# Altium schematic symbol library Connectors B2B.SchLib: 8 symbols
Pins are listed as number, name and electrical type; pins without a type are passive.

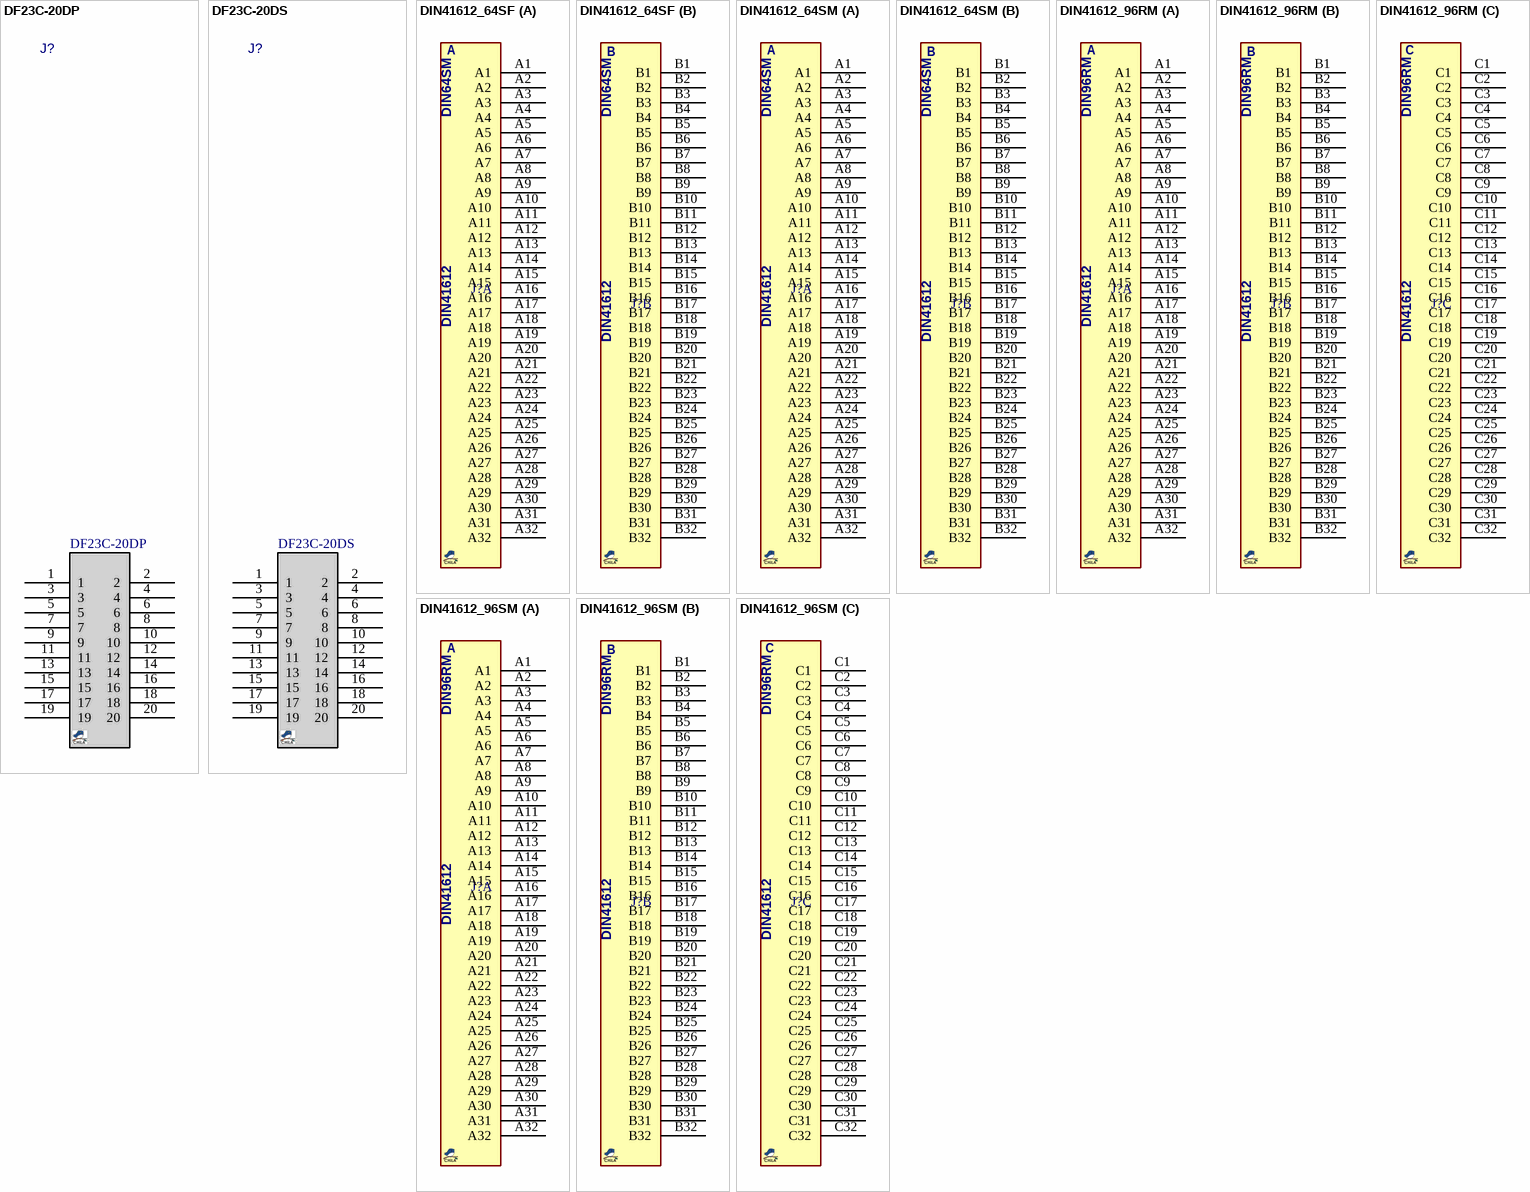
[diagram p0: symbols DF23C-20DP to DIN41612_96SM]

## DF23C-20DP
designator J?
DF23 Series B2B Connectors; MANF: HIROSE; DESC: Mating DF23C-20DS-0.5V(51); MANF_P#: DF23C-20DP-0.5V(92); PRICE: 0.85$; VALUE: DF23C-20DP
footprint DF23C_20DP (Footprint not found)
pins: 1, 2, 3, 4, 5, 6, 7, 8, 9, 10, 11, 12, 13, 14, 15, 16, 17, 18, 19, 20

## DF23C-20DS
designator J?
DF23 Series B2B Connectors; MANF: HIROSE; DESC: Mating DF23C-20DP-0.5V(92); MANF_P#: DF23C-20DS-0.5V(51); PRICE: 0.7$; VALUE: DF23C-20DS
footprint DF23C_20DS (Hirose Connector DF23C-20DS-0.5V(51) 20WAY pitch:0.5mm)
pins: 1, 2, 3, 4, 5, 6, 7, 8, 9, 10, 11, 12, 13, 14, 15, 16, 17, 18, 19, 20

## DIN41612_64SF
designator J?, comment DIN64SF  (value not drawn)
DIN 41612, 2.54mm,pin,DIN 41612,solder,PCB; MANF: HIROSE; MANF_P#: PCN10-64S-2.54DSA(72); VALUE: DIN64SF
footprint DIN_64SF
part A pins: A1, A2, A3, A4, A5, A6, A7, A8, A9, A10, A11, A12, A13, A14, A15, A16, A17, A18, A19, A20, A21, A22, A23, A24, A25, A26, A27, A28, A29, A30, A31, A32
part B pins: B1, B2, B3, B4, B5, B6, B7, B8, B9, B10, B11, B12, B13, B14, B15, B16, B17, B18, B19, B20, B21, B22, B23, B24, B25, B26, B27, B28, B29, B30, B31, B32
part A text: A; DIN64SM; DIN41612
part B text: B; DIN64SM; DIN41612

## DIN41612_64SM
designator J?, comment DIN64SM  (value not drawn)
DIN 41612, 2.54mm,pin,DIN 41612,solder,PCB; MANF: HIROSE; MANF_P#: PCN10-64P-2.54DSA(72); VALUE: DIN64SM
footprint DIN_64SM (Footprint not found)
part A pins: A1, A2, A3, A4, A5, A6, A7, A8, A9, A10, A11, A12, A13, A14, A15, A16, A17, A18, A19, A20, A21, A22, A23, A24, A25, A26, A27, A28, A29, A30, A31, A32
part B pins: B1, B2, B3, B4, B5, B6, B7, B8, B9, B10, B11, B12, B13, B14, B15, B16, B17, B18, B19, B20, B21, B22, B23, B24, B25, B26, B27, B28, B29, B30, B31, B32
part A text: A; DIN41612
part B text: B; DIN41612

## DIN41612_96RM
designator J?, comment DIN96RM  (value not drawn)
DIN 41612, 2.54mm,pin,DIN 41612,solder,PCB,90,96w,; MANF: TE; MANF_P#: 5650947-5; VALUE: DIN96RM
footprint DIN_96RM
part A pins: A1, A2, A3, A4, A5, A6, A7, A8, A9, A10, A11, A12, A13, A14, A15, A16, A17, A18, A19, A20, A21, A22, A23, A24, A25, A26, A27, A28, A29, A30, A31, A32
part B pins: B1, B2, B3, B4, B5, B6, B7, B8, B9, B10, B11, B12, B13, B14, B15, B16, B17, B18, B19, B20, B21, B22, B23, B24, B25, B26, B27, B28, B29, B30, B31, B32
part C pins: C1, C2, C3, C4, C5, C6, C7, C8, C9, C10, C11, C12, C13, C14, C15, C16, C17, C18, C19, C20, C21, C22, C23, C24, C25, C26, C27, C28, C29, C30, C31, C32
part A text: A; DIN41612
part B text: B; DIN41612
part C text: C; DIN41612

## DIN41612_96SM
designator J?, comment DIN96SM  (value not drawn)
DIN 41612, 2.54mm,pin,DIN 41612,solder,PCB,96w,; MANF: TE; DESC: compatible female 535089-5; MANF_P#: 650470-5; VALUE: DIN96SM
footprint DIN_96SM
part A pins: A1, A2, A3, A4, A5, A6, A7, A8, A9, A10, A11, A12, A13, A14, A15, A16, A17, A18, A19, A20, A21, A22, A23, A24, A25, A26, A27, A28, A29, A30, A31, A32
part B pins: B1, B2, B3, B4, B5, B6, B7, B8, B9, B10, B11, B12, B13, B14, B15, B16, B17, B18, B19, B20, B21, B22, B23, B24, B25, B26, B27, B28, B29, B30, B31, B32
part C pins: C1, C2, C3, C4, C5, C6, C7, C8, C9, C10, C11, C12, C13, C14, C15, C16, C17, C18, C19, C20, C21, C22, C23, C24, C25, C26, C27, C28, C29, C30, C31, C32
part A text: A; DIN96RM; DIN41612
part B text: B; DIN96RM; DIN41612
part C text: C; DIN96RM; DIN41612

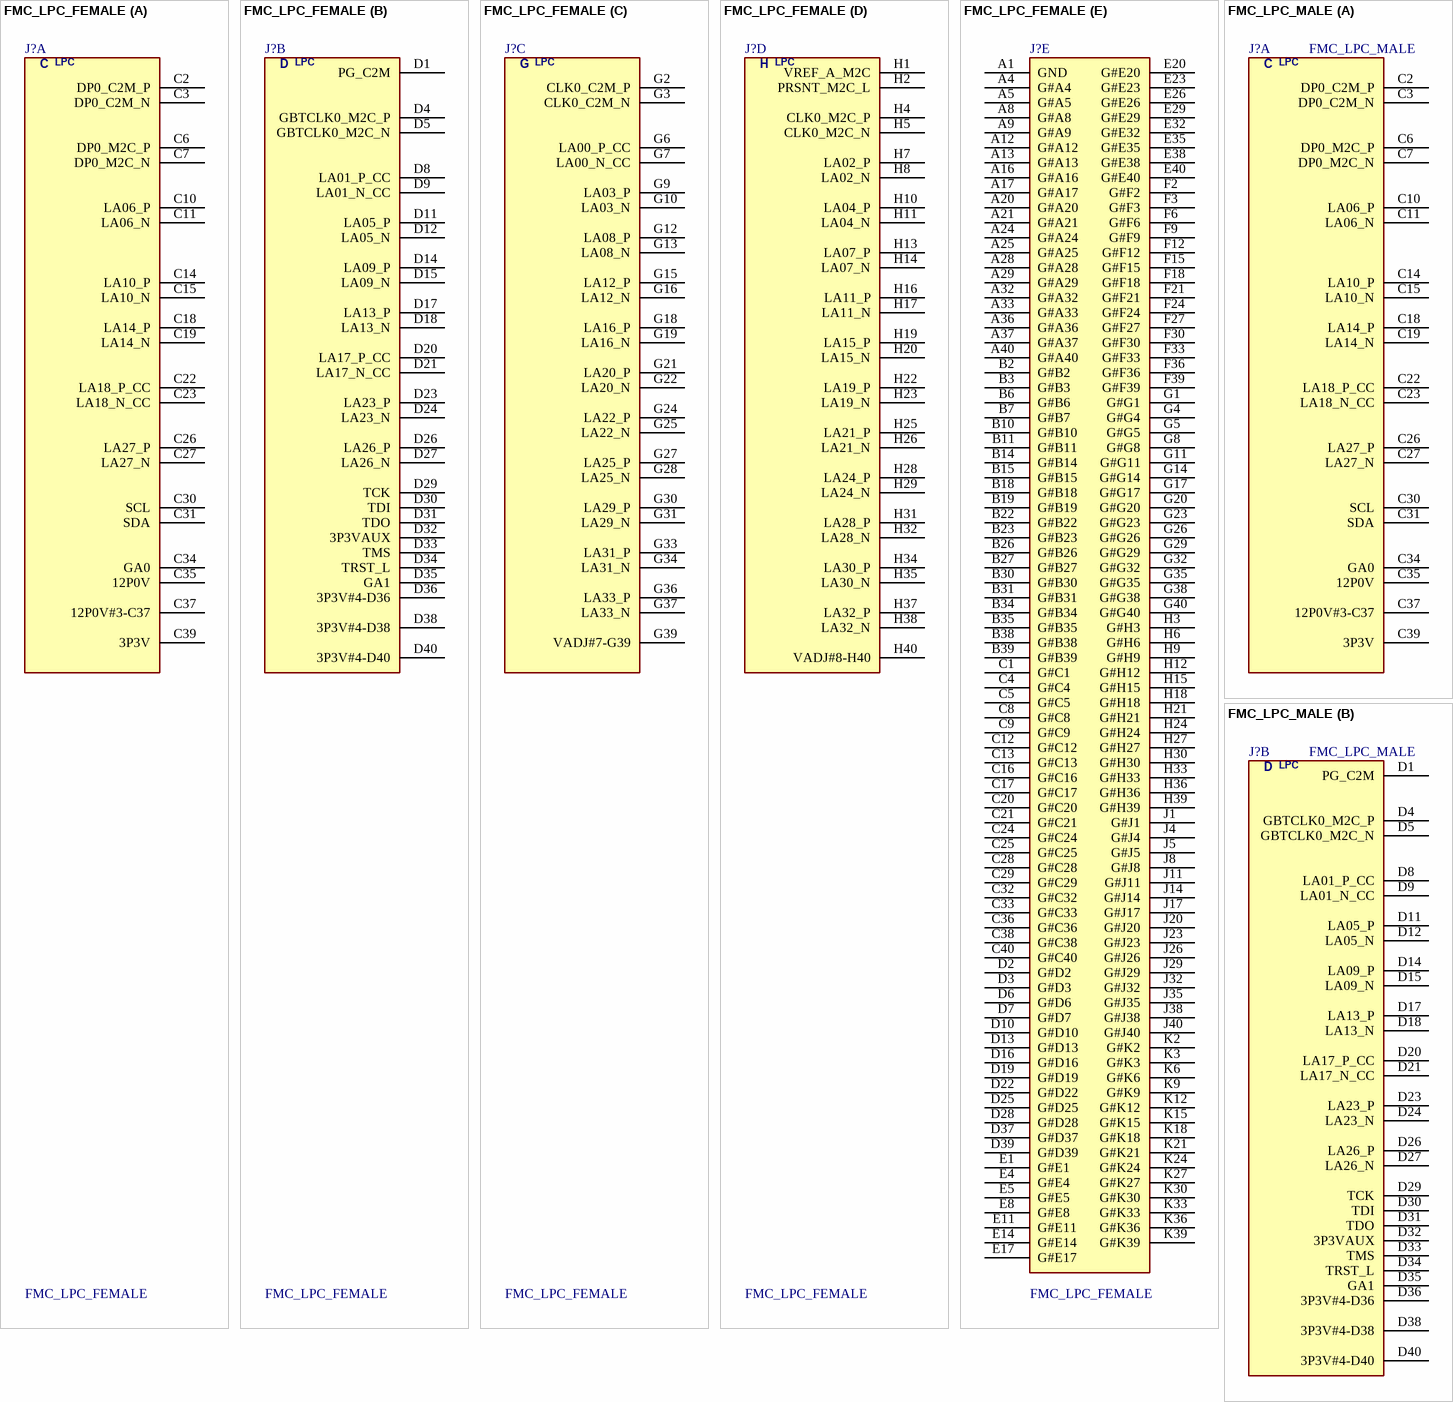
[diagram p1: symbols FMC_LPC_FEMALE to FMC_LPC_MALE]

## FMC_LPC_FEMALE
designator J?
CONN, FMC, LPC, 160PIN, FEMALE; MANF: SAMTEC, MOLEX; MANF_P#: ASP-134603-01; VALUE: FMC_LPC_FEMALE
footprint FMC_LPC_F (Samtec FMC (FPGA mezzanine Card) LPC female, ASP-134603)
part A pins: C2 DP0_C2M_P, C3 DP0_C2M_N, C6 DP0_M2C_P, C7 DP0_M2C_N, C10 LA06_P, C11 LA06_N, C14 LA10_P, C15 LA10_N, C18 LA14_P, C19 LA14_N, C22 LA18_P_CC, C23 LA18_N_CC, C26 LA27_P, C27 LA27_N, C30 SCL, C31 SDA, C34 GA0, C35 12P0V, C37 12P0V#3-C37, C39 3P3V
part B pins: D1 PG_C2M, D4 GBTCLK0_M2C_P, D5 GBTCLK0_M2C_N, D8 LA01_P_CC, D9 LA01_N_CC, D11 LA05_P, D12 LA05_N, D14 LA09_P, D15 LA09_N, D17 LA13_P, D18 LA13_N, D20 LA17_P_CC, D21 LA17_N_CC, D23 LA23_P, D24 LA23_N, D26 LA26_P, D27 LA26_N, D29 TCK, D30 TDI, D31 TDO, D32 3P3VAUX, D33 TMS, D34 TRST_L, D35 GA1, D36 3P3V#4-D36, D38 3P3V#4-D38, D40 3P3V#4-D40
part C pins: G2 CLK0_C2M_P, G3 CLK0_C2M_N, G6 LA00_P_CC, G7 LA00_N_CC, G9 LA03_P, G10 LA03_N, G12 LA08_P, G13 LA08_N, G15 LA12_P, G16 LA12_N, G18 LA16_P, G19 LA16_N, G21 LA20_P, G22 LA20_N, G24 LA22_P, G25 LA22_N, G27 LA25_P, G28 LA25_N, G30 LA29_P, G31 LA29_N, G33 LA31_P, G34 LA31_N, G36 LA33_P, G37 LA33_N, G39 VADJ#7-G39
part D pins: H1 VREF_A_M2C, H2 PRSNT_M2C_L, H4 CLK0_M2C_P, H5 CLK0_M2C_N, H7 LA02_P, H8 LA02_N, H10 LA04_P, H11 LA04_N, H13 LA07_P, H14 LA07_N, H16 LA11_P, H17 LA11_N, H19 LA15_P, H20 LA15_N, H22 LA19_P, H23 LA19_N, H25 LA21_P, H26 LA21_N, H28 LA24_P, H29 LA24_N, H31 LA28_P, H32 LA28_N, H34 LA30_P, H35 LA30_N, H37 LA32_P, H38 LA32_N, H40 VADJ#8-H40
part E pins: A1 GND, A4 G#A4, A5 G#A5, A8 G#A8, A9 G#A9, A12 G#A12, A13 G#A13, A16 G#A16, A17 G#A17, A20 G#A20, A21 G#A21, A24 G#A24, A25 G#A25, A28 G#A28, A29 G#A29, A32 G#A32, A33 G#A33, A36 G#A36, A37 G#A37, A40 G#A40, B2 G#B2, B3 G#B3, B6 G#B6, B7 G#B7, B10 G#B10, B11 G#B11, B14 G#B14, B15 G#B15, B18 G#B18, B19 G#B19, B22 G#B22, B23 G#B23, B26 G#B26, B27 G#B27, B30 G#B30, B31 G#B31, B34 G#B34, B35 G#B35, B38 G#B38, B39 G#B39, C1 G#C1, C4 G#C4, C5 G#C5, C8 G#C8, C9 G#C9, C12 G#C12, C13 G#C13, C16 G#C16, C17 G#C17, C20 G#C20, C21 G#C21, C24 G#C24, C25 G#C25, C28 G#C28, C29 G#C29, C32 G#C32, C33 G#C33, C36 G#C36, C38 G#C38, C40 G#C40, D2 G#D2, D3 G#D3, D6 G#D6, D7 G#D7, D10 G#D10, D13 G#D13, D16 G#D16, D19 G#D19, D22 G#D22, D25 G#D25, D28 G#D28, D37 G#D37, D39 G#D39, E1 G#E1, E4 G#E4, E5 G#E5, E8 G#E8, E11 G#E11, E14 G#E14, E17 G#E17, E20 G#E20, E23 G#E23, E26 G#E26, E29 G#E29, E32 G#E32, E35 G#E35, E38 G#E38, E40 G#E40, F2 G#F2, F3 G#F3, F6 G#F6, F9 G#F9, F12 G#F12, F15 G#F15, F18 G#F18, F21 G#F21, F24 G#F24, F27 G#F27, F30 G#F30, F33 G#F33, F36 G#F36, F39 G#F39, G1 G#G1, G4 G#G4, G5 G#G5, G8 G#G8, G11 G#G11, G14 G#G14, G17 G#G17, G20 G#G20, G23 G#G23, G26 G#G26, G29 G#G29, G32 G#G32, G35 G#G35, G38 G#G38, G40 G#G40, H3 G#H3, H6 G#H6, H9 G#H9, H12 G#H12, H15 G#H15, H18 G#H18, H21 G#H21, H24 G#H24, H27 G#H27, H30 G#H30, H33 G#H33, H36 G#H36, H39 G#H39, J1 G#J1, J4 G#J4, J5 G#J5, J8 G#J8, J11 G#J11, J14 G#J14, J17 G#J17, J20 G#J20, J23 G#J23, J26 G#J26, J29 G#J29, J32 G#J32, J35 G#J35, J38 G#J38, J40 G#J40, K2 G#K2, K3 G#K3, K6 G#K6, K9 G#K9, K12 G#K12, K15 G#K15, K18 G#K18, K21 G#K21, K24 G#K24, K27 G#K27, K30 G#K30, K33 G#K33, K36 G#K36, K39 G#K39
part A text: C; LPC
part B text: D; LPC
part C text: G; LPC
part D text: H; LPC

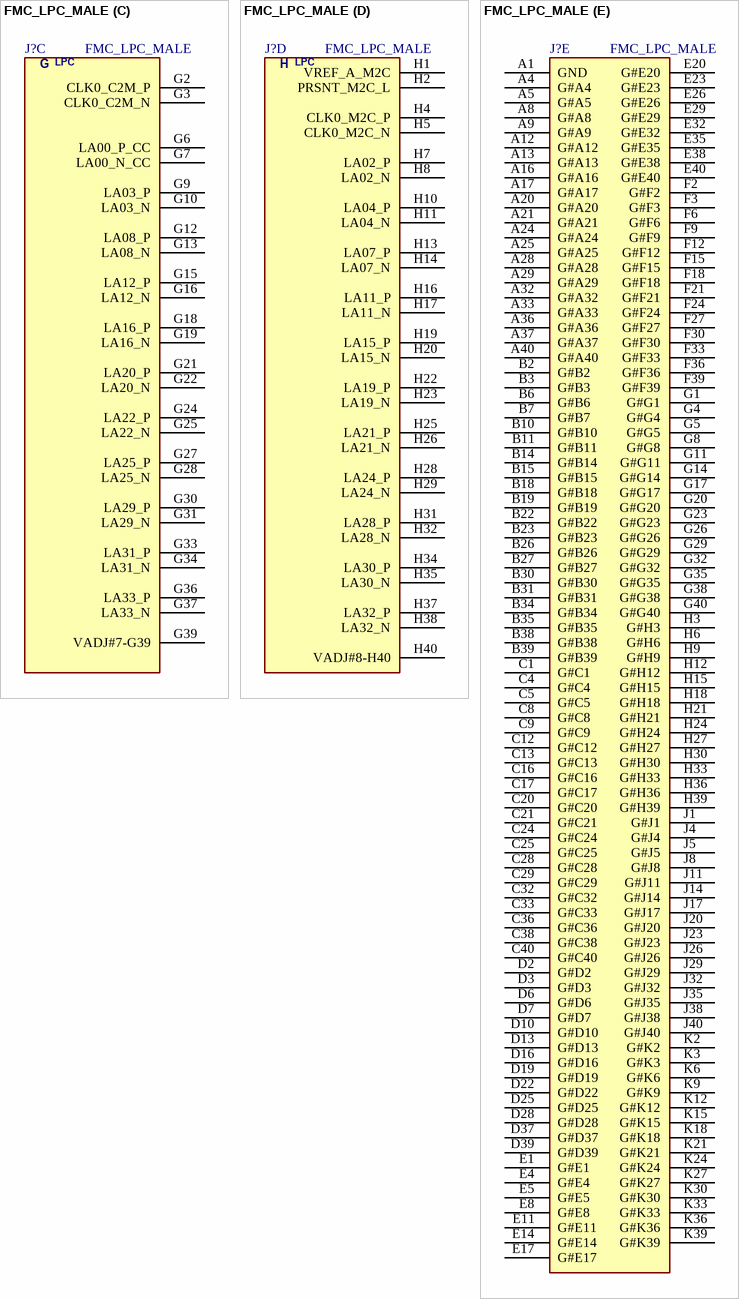
[diagram p2: symbol FMC_LPC_MALE]

## FMC_LPC_MALE
designator J?
CONN, FMC, LPC, 160PIN, MALE; MANF: SAMTEC, MOLEX; MANF_P#: ASP-134604-01; VALUE: FMC_LPC_MALE
footprint FMC_LPC_M (Samtec FMC (FPGA mezzanine Card) LPC male, ASP-134604)
part A pins: C2 DP0_C2M_P, C3 DP0_C2M_N, C6 DP0_M2C_P, C7 DP0_M2C_N, C10 LA06_P, C11 LA06_N, C14 LA10_P, C15 LA10_N, C18 LA14_P, C19 LA14_N, C22 LA18_P_CC, C23 LA18_N_CC, C26 LA27_P, C27 LA27_N, C30 SCL, C31 SDA, C34 GA0, C35 12P0V, C37 12P0V#3-C37, C39 3P3V
part B pins: D1 PG_C2M, D4 GBTCLK0_M2C_P, D5 GBTCLK0_M2C_N, D8 LA01_P_CC, D9 LA01_N_CC, D11 LA05_P, D12 LA05_N, D14 LA09_P, D15 LA09_N, D17 LA13_P, D18 LA13_N, D20 LA17_P_CC, D21 LA17_N_CC, D23 LA23_P, D24 LA23_N, D26 LA26_P, D27 LA26_N, D29 TCK, D30 TDI, D31 TDO, D32 3P3VAUX, D33 TMS, D34 TRST_L, D35 GA1, D36 3P3V#4-D36, D38 3P3V#4-D38, D40 3P3V#4-D40
part C pins: G2 CLK0_C2M_P, G3 CLK0_C2M_N, G6 LA00_P_CC, G7 LA00_N_CC, G9 LA03_P, G10 LA03_N, G12 LA08_P, G13 LA08_N, G15 LA12_P, G16 LA12_N, G18 LA16_P, G19 LA16_N, G21 LA20_P, G22 LA20_N, G24 LA22_P, G25 LA22_N, G27 LA25_P, G28 LA25_N, G30 LA29_P, G31 LA29_N, G33 LA31_P, G34 LA31_N, G36 LA33_P, G37 LA33_N, G39 VADJ#7-G39
part D pins: H1 VREF_A_M2C, H2 PRSNT_M2C_L, H4 CLK0_M2C_P, H5 CLK0_M2C_N, H7 LA02_P, H8 LA02_N, H10 LA04_P, H11 LA04_N, H13 LA07_P, H14 LA07_N, H16 LA11_P, H17 LA11_N, H19 LA15_P, H20 LA15_N, H22 LA19_P, H23 LA19_N, H25 LA21_P, H26 LA21_N, H28 LA24_P, H29 LA24_N, H31 LA28_P, H32 LA28_N, H34 LA30_P, H35 LA30_N, H37 LA32_P, H38 LA32_N, H40 VADJ#8-H40
part E pins: A1 GND, A4 G#A4, A5 G#A5, A8 G#A8, A9 G#A9, A12 G#A12, A13 G#A13, A16 G#A16, A17 G#A17, A20 G#A20, A21 G#A21, A24 G#A24, A25 G#A25, A28 G#A28, A29 G#A29, A32 G#A32, A33 G#A33, A36 G#A36, A37 G#A37, A40 G#A40, B2 G#B2, B3 G#B3, B6 G#B6, B7 G#B7, B10 G#B10, B11 G#B11, B14 G#B14, B15 G#B15, B18 G#B18, B19 G#B19, B22 G#B22, B23 G#B23, B26 G#B26, B27 G#B27, B30 G#B30, B31 G#B31, B34 G#B34, B35 G#B35, B38 G#B38, B39 G#B39, C1 G#C1, C4 G#C4, C5 G#C5, C8 G#C8, C9 G#C9, C12 G#C12, C13 G#C13, C16 G#C16, C17 G#C17, C20 G#C20, C21 G#C21, C24 G#C24, C25 G#C25, C28 G#C28, C29 G#C29, C32 G#C32, C33 G#C33, C36 G#C36, C38 G#C38, C40 G#C40, D2 G#D2, D3 G#D3, D6 G#D6, D7 G#D7, D10 G#D10, D13 G#D13, D16 G#D16, D19 G#D19, D22 G#D22, D25 G#D25, D28 G#D28, D37 G#D37, D39 G#D39, E1 G#E1, E4 G#E4, E5 G#E5, E8 G#E8, E11 G#E11, E14 G#E14, E17 G#E17, E20 G#E20, E23 G#E23, E26 G#E26, E29 G#E29, E32 G#E32, E35 G#E35, E38 G#E38, E40 G#E40, F2 G#F2, F3 G#F3, F6 G#F6, F9 G#F9, F12 G#F12, F15 G#F15, F18 G#F18, F21 G#F21, F24 G#F24, F27 G#F27, F30 G#F30, F33 G#F33, F36 G#F36, F39 G#F39, G1 G#G1, G4 G#G4, G5 G#G5, G8 G#G8, G11 G#G11, G14 G#G14, G17 G#G17, G20 G#G20, G23 G#G23, G26 G#G26, G29 G#G29, G32 G#G32, G35 G#G35, G38 G#G38, G40 G#G40, H3 G#H3, H6 G#H6, H9 G#H9, H12 G#H12, H15 G#H15, H18 G#H18, H21 G#H21, H24 G#H24, H27 G#H27, H30 G#H30, H33 G#H33, H36 G#H36, H39 G#H39, J1 G#J1, J4 G#J4, J5 G#J5, J8 G#J8, J11 G#J11, J14 G#J14, J17 G#J17, J20 G#J20, J23 G#J23, J26 G#J26, J29 G#J29, J32 G#J32, J35 G#J35, J38 G#J38, J40 G#J40, K2 G#K2, K3 G#K3, K6 G#K6, K9 G#K9, K12 G#K12, K15 G#K15, K18 G#K18, K21 G#K21, K24 G#K24, K27 G#K27, K30 G#K30, K33 G#K33, K36 G#K36, K39 G#K39
part A text: C; LPC
part B text: D; LPC
part C text: G; LPC
part D text: H; LPC